# EAGLE library part PIC32MK1024MCF100-I_PT (library mestrado)
Microchip Technology MCU32, 120MHz, 4 I2C, 6 I2S, USB FS, CAN 2.0B, 12-bit ADC, Motor Control Source: Datasheet <https://componentsearchengine.com/Datasheets/1/PIC32MK1024MCF100-I_PT.pdf>
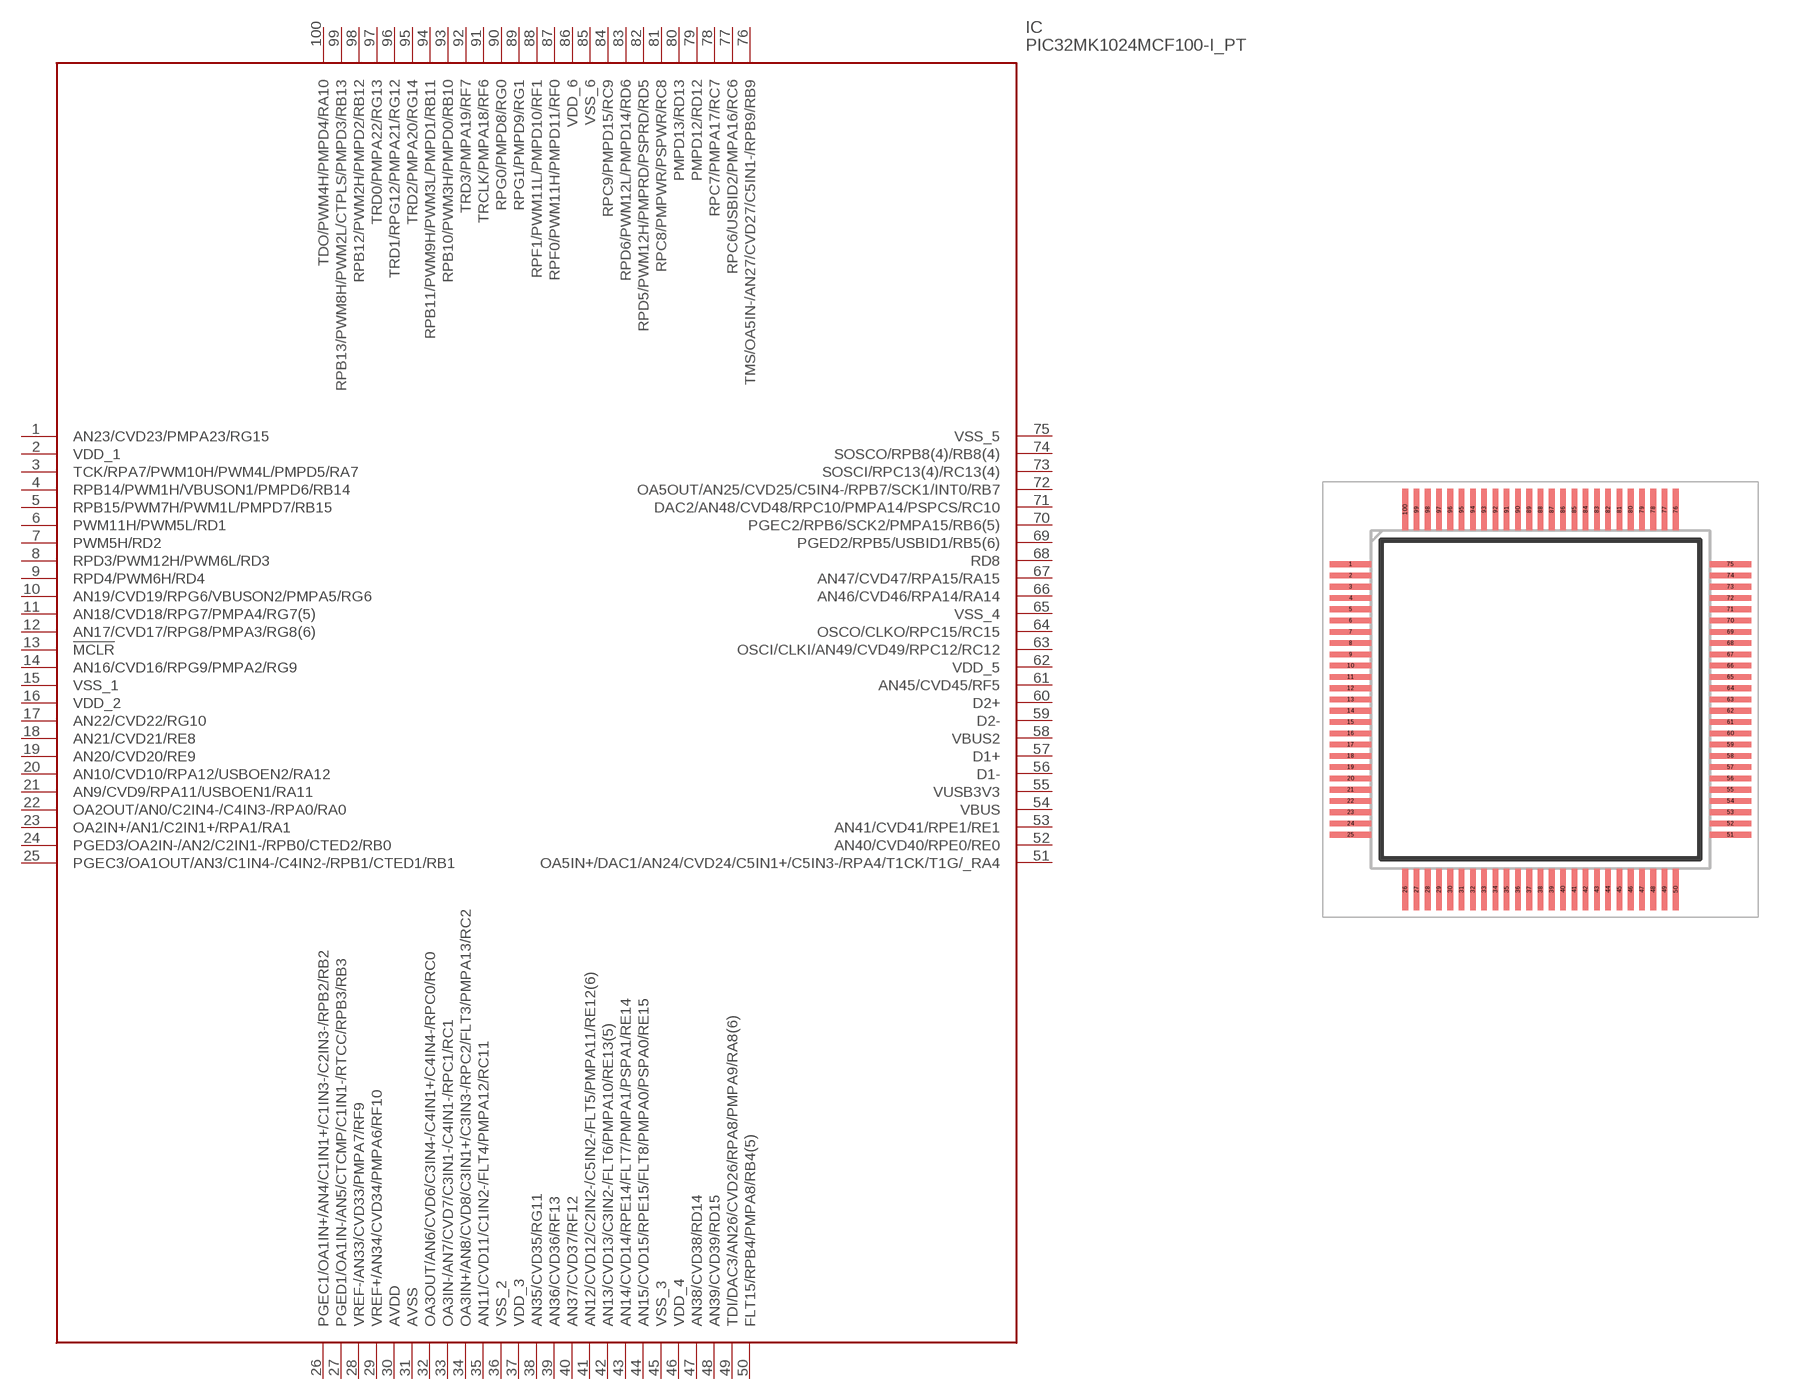
[diagram p0: symbol with the pads of QFP40P1400X1400X120-100N; footprint QFP40P1400X1400X120-100N]

Designator prefix IC

## PIC32MK1024MCF100-I_PT (DESCRIPTION: Microchip Technology MCU32, 120MHz, 4 I2C, 6 I2S, USB FS, CAN 2.0B, 12-bit ADC, Motor Control; HEIGHT: 1.2mm; MANUFACTURER_NAME: Microchip; MANUFACTURER_PART_NUMBER: PIC32MK1024MCF100-I/PT; MOUSER_PART_NUMBER: 579-2MK1024MCF100IPT)  [QFP40P1400X1400X120-100N]
1  AN23/CVD23/PMPA23/RG15
2  VDD_1
3  TCK/RPA7/PWM10H/PWM4L/PMPD5/RA7
4  RPB14/PWM1H/VBUSON1/PMPD6/RB14
5  RPB15/PWM7H/PWM1L/PMPD7/RB15
6  PWM11H/PWM5L/RD1
7  PWM5H/RD2
8  RPD3/PWM12H/PWM6L/RD3
9  RPD4/PWM6H/RD4
10  AN19/CVD19/RPG6/VBUSON2/PMPA5/RG6
11  AN18/CVD18/RPG7/PMPA4/RG7(5)
12  AN17/CVD17/RPG8/PMPA3/RG8(6)
13  !MCLR
14  AN16/CVD16/RPG9/PMPA2/RG9
15  VSS_1
16  VDD_2
17  AN22/CVD22/RG10
18  AN21/CVD21/RE8
19  AN20/CVD20/RE9
20  AN10/CVD10/RPA12/USBOEN2/RA12
21  AN9/CVD9/RPA11/USBOEN1/RA11
22  OA2OUT/AN0/C2IN4-/C4IN3-/RPA0/RA0
23  OA2IN+/AN1/C2IN1+/RPA1/RA1
24  PGED3/OA2IN-/AN2/C2IN1-/RPB0/CTED2/RB0
25  PGEC3/OA1OUT/AN3/C1IN4-/C4IN2-/RPB1/CTED1/RB1
26  PGEC1/OA1IN+/AN4/C1IN1+/C1IN3-/C2IN3-/RPB2/RB2
27  PGED1/OA1IN-/AN5/CTCMP/C1IN1-/RTCC/RPB3/RB3
28  VREF-/AN33/CVD33/PMPA7/RF9
29  VREF+/AN34/CVD34/PMPA6/RF10
30  AVDD
31  AVSS
32  OA3OUT/AN6/CVD6/C3IN4-/C4IN1+/C4IN4-/RPC0/RC0
33  OA3IN-/AN7/CVD7/C3IN1-/C4IN1-/RPC1/RC1
34  OA3IN+/AN8/CVD8/C3IN1+/C3IN3-/RPC2/FLT3/PMPA13/RC2
35  AN11/CVD11/C1IN2-/FLT4/PMPA12/RC11
36  VSS_2
37  VDD_3
38  AN35/CVD35/RG11
39  AN36/CVD36/RF13
40  AN37/CVD37/RF12
41  AN12/CVD12/C2IN2-/C5IN2-/FLT5/PMPA11/RE12(6)
42  AN13/CVD13/C3IN2-/FLT6/PMPA10/RE13(5)
43  AN14/CVD14/RPE14/FLT7/PMPA1/PSPA1/RE14
44  AN15/CVD15/RPE15/FLT8/PMPA0/PSPA0/RE15
45  VSS_3
46  VDD_4
47  AN38/CVD38/RD14
48  AN39/CVD39/RD15
49  TDI/DAC3/AN26/CVD26/RPA8/PMPA9/RA8(6)
50  FLT15/RPB4/PMPA8/RB4(5)
51  OA5IN+/DAC1/AN24/CVD24/C5IN1+/C5IN3-/RPA4/T1CK/T1G/_RA4
52  AN40/CVD40/RPE0/RE0
53  AN41/CVD41/RPE1/RE1
54  VBUS
55  VUSB3V3
56  D1-
57  D1+
58  VBUS2
59  D2-
60  D2+
61  AN45/CVD45/RF5
62  VDD_5
63  OSCI/CLKI/AN49/CVD49/RPC12/RC12
64  OSCO/CLKO/RPC15/RC15
65  VSS_4
66  AN46/CVD46/RPA14/RA14
67  AN47/CVD47/RPA15/RA15
68  RD8
69  PGED2/RPB5/USBID1/RB5(6)
70  PGEC2/RPB6/SCK2/PMPA15/RB6(5)
71  DAC2/AN48/CVD48/RPC10/PMPA14/PSPCS/RC10
72  OA5OUT/AN25/CVD25/C5IN4-/RPB7/SCK1/INT0/RB7
73  SOSCI/RPC13(4)/RC13(4)
74  SOSCO/RPB8(4)/RB8(4)
75  VSS_5
76  TMS/OA5IN-/AN27/CVD27/C5IN1-/RPB9/RB9
77  RPC6/USBID2/PMPA16/RC6
78  RPC7/PMPA17/RC7
79  PMPD12/RD12
80  PMPD13/RD13
81  RPC8/PMPWR/PSPWR/RC8
82  RPD5/PWM12H/PMPRD/PSPRD/RD5
83  RPD6/PWM12L/PMPD14/RD6
84  RPC9/PMPD15/RC9
85  VSS_6
86  VDD_6
87  RPF0/PWM11H/PMPD11/RF0
88  RPF1/PWM11L/PMPD10/RF1
89  RPG1/PMPD9/RG1
90  RPG0/PMPD8/RG0
91  TRCLK/PMPA18/RF6
92  TRD3/PMPA19/RF7
93  RPB10/PWM3H/PMPD0/RB10
94  RPB11/PWM9H/PWM3L/PMPD1/RB11
95  TRD2/PMPA20/RG14
96  TRD1/RPG12/PMPA21/RG12
97  TRD0/PMPA22/RG13
98  RPB12/PWM2H/PMPD2/RB12
99  RPB13/PWM8H/PWM2L/CTPLS/PMPD3/RB13
100  TDO/PWM4H/PMPD4/RA10

## Footprint QFP40P1400X1400X120-100N (pad centres in mm)
100-(PT) Quad Flatpack
smd 1.475 x 0.2: 1 -6.738,4.8; 2 -6.738,4.4; 3 -6.738,4; 4 -6.738,3.6; 5 -6.738,3.2; 6 -6.738,2.8; 7 -6.738,2.4; 8 -6.738,2; 9 -6.738,1.6; 10 -6.738,1.2; 11 -6.738,0.8; 12 -6.738,0.4; 13 -6.738,0; 14 -6.738,-0.4; 15 -6.738,-0.8; 16 -6.738,-1.2; 17 -6.738,-1.6; 18 -6.738,-2; 19 -6.738,-2.4; 20 -6.738,-2.8; 21 -6.738,-3.2; 22 -6.738,-3.6; 23 -6.738,-4; 24 -6.738,-4.4; 25 -6.738,-4.8; 51 6.738,-4.8; 52 6.738,-4.4; 53 6.738,-4; 54 6.738,-3.6; 55 6.738,-3.2; 56 6.738,-2.8; 57 6.738,-2.4; 58 6.738,-2; 59 6.738,-1.6; 60 6.738,-1.2; 61 6.738,-0.8; 62 6.738,-0.4; 63 6.738,0; 64 6.738,0.4; 65 6.738,0.8; 66 6.738,1.2; 67 6.738,1.6; 68 6.738,2; 69 6.738,2.4; 70 6.738,2.8; 71 6.738,3.2; 72 6.738,3.6; 73 6.738,4; 74 6.738,4.4; 75 6.738,4.8
smd 0.2 x 1.475: 26 -4.8,-6.738; 27 -4.4,-6.738; 28 -4,-6.738; 29 -3.6,-6.738; 30 -3.2,-6.738; 31 -2.8,-6.738; 32 -2.4,-6.738; 33 -2,-6.738; 34 -1.6,-6.738; 35 -1.2,-6.738; 36 -0.8,-6.738; 37 -0.4,-6.738; 38 0,-6.738; 39 0.4,-6.738; 40 0.8,-6.738; 41 1.2,-6.738; 42 1.6,-6.738; 43 2,-6.738; 44 2.4,-6.738; 45 2.8,-6.738; 46 3.2,-6.738; 47 3.6,-6.738; 48 4,-6.738; 49 4.4,-6.738; 50 4.8,-6.738; 76 4.8,6.738; 77 4.4,6.738; 78 4,6.738; 79 3.6,6.738; 80 3.2,6.738; 81 2.8,6.738; 82 2.4,6.738; 83 2,6.738; 84 1.6,6.738; 85 1.2,6.738; 86 0.8,6.738; 87 0.4,6.738; 88 0,6.738; 89 -0.4,6.738; 90 -0.8,6.738; 91 -1.2,6.738; 92 -1.6,6.738; 93 -2,6.738; 94 -2.4,6.738; 95 -2.8,6.738; 96 -3.2,6.738; 97 -3.6,6.738; 98 -4,6.738; 99 -4.4,6.738; 100 -4.8,6.738